# Altium integrated library Maxim Memory.IntLib: 366 symbols (part 3 of 7)
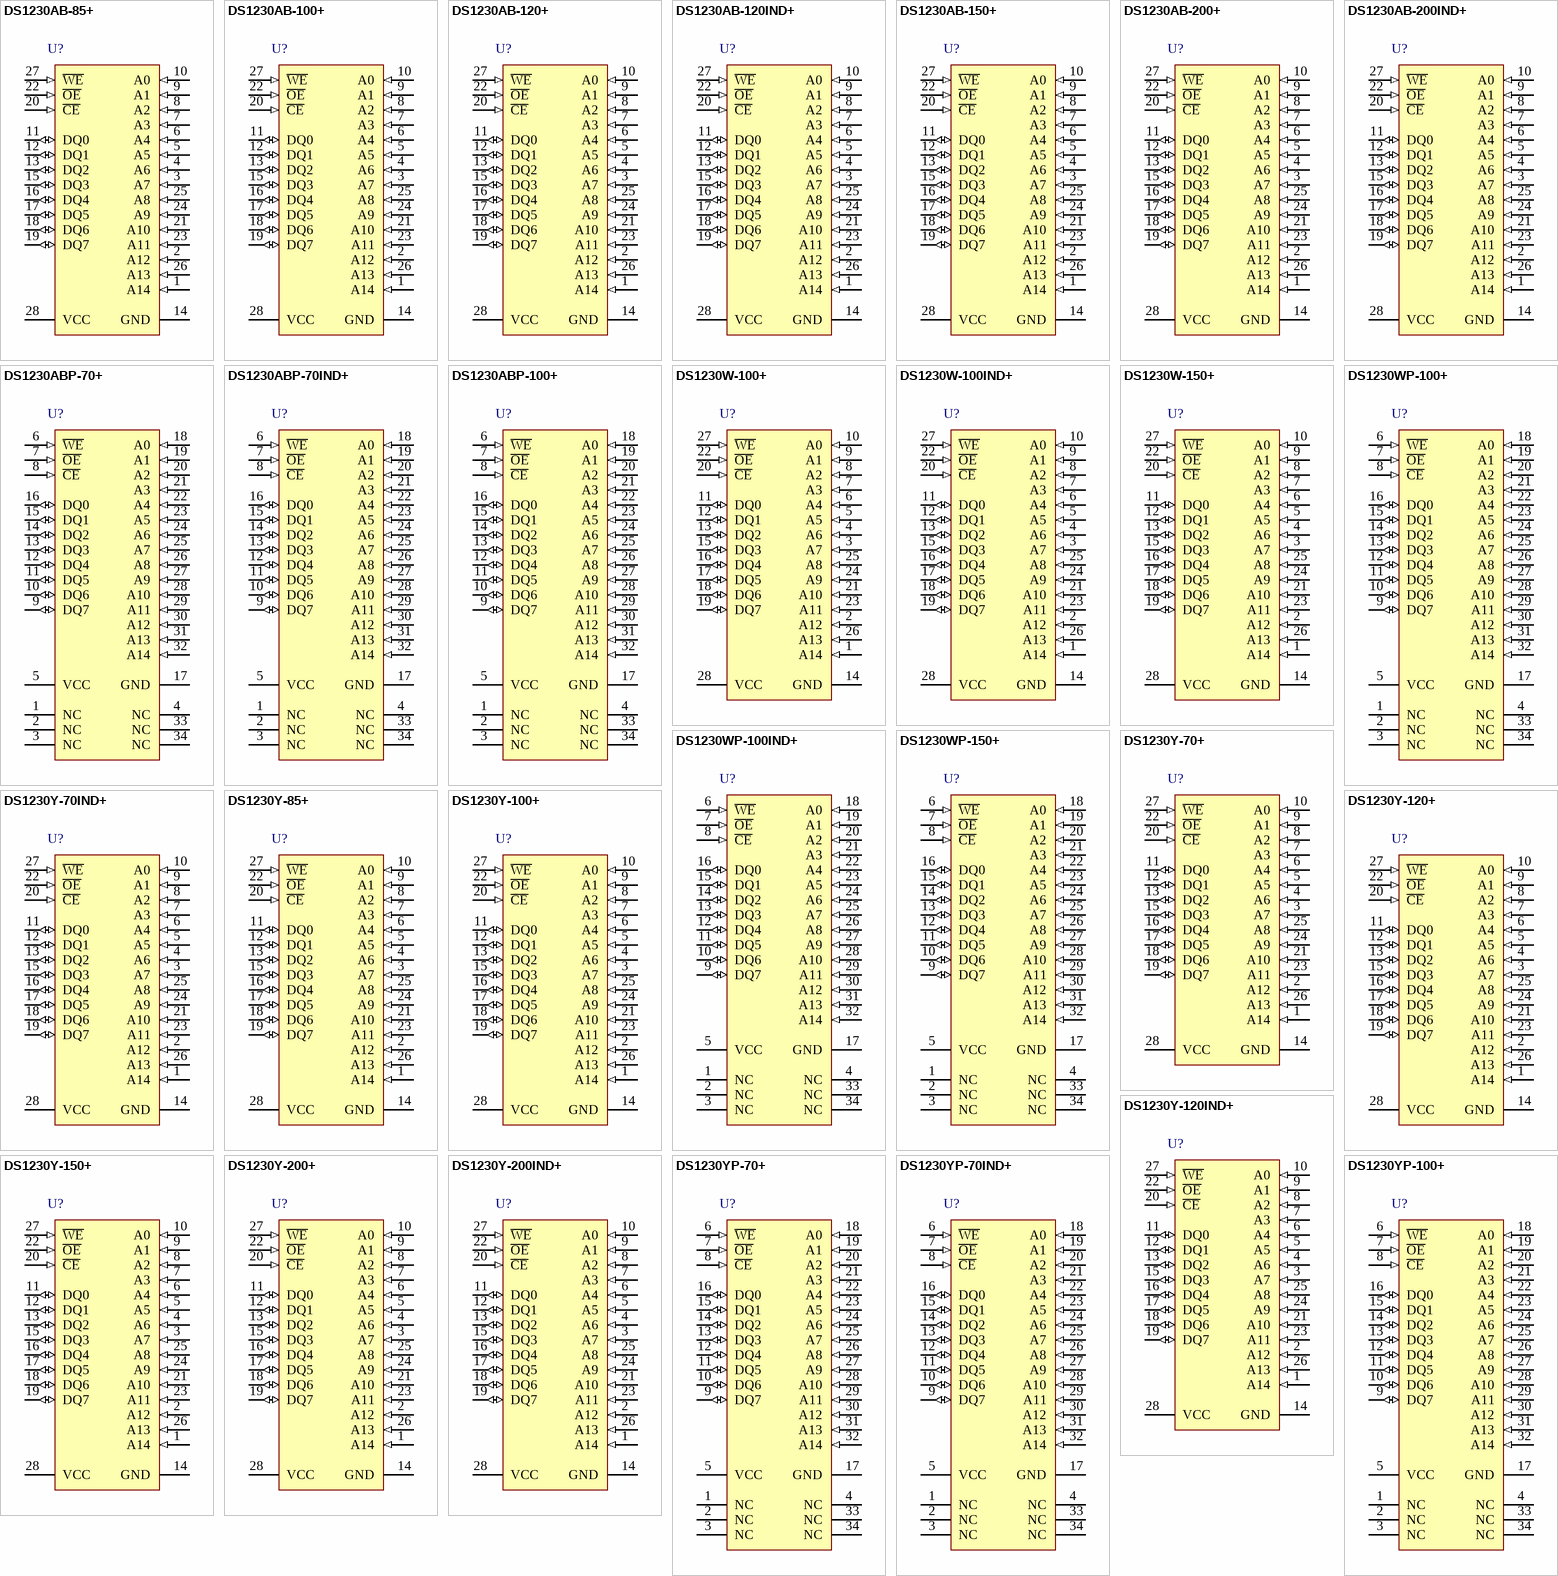
[diagram p15: symbols DS1230AB-85+ to DS1230YP-100+]

## DS1230Y-100+
designator U?
256Kb Nonvolatile SRAM, +/-10% VCC Operating range, 28-pin EDIP, 0° to + 70° C, Pb-Free; DatasheetVersion: 1/11/2010; PackageVersion: revA, Feb-2003; PackageReference: MDT28+3; PackageDescription: 28-Pin Encapsulated Dual-In-Line Module, 2.54 mm Pitch, EDIP, 740-mil extended, Pb-Free; ComponentLink1Description: Manufacturer URL; ComponentLink1URL: www.maxim-ic.com; ComponentLink2Description: Datasheet; ComponentLink2URL: http://datasheets.maxim-ic.com/en/ds/DS1230AB-DS1230Y.pdf
footprint MDT28+3 (DIP; 28 Rectangular Pins, Body 38.2x18.5mm, Row Space 15.24mm, Pitch 2.54mm)
pins: 1 A14 (in), 2 A12 (in), 3 A7 (in), 4 A6 (in), 5 A5 (in), 6 A4 (in), 7 A3 (in), 8 A2 (in), 9 A1 (in), 10 A0 (in), 11 DQ0 (io), 12 DQ1 (io), 13 DQ2 (io), 14 GND (power), 15 DQ3 (io), 16 DQ4 (io), 17 DQ5 (io), 18 DQ6 (io), 19 DQ7 (io), 20 ~{CE} (in), 21 A10 (in), 22 ~{OE} (in), 23 A11 (in), 24 A9 (in), 25 A8 (in), 26 A13 (in), 27 ~{WE} (in), 28 VCC (power)

## DS1230Y-120+
designator U?
256Kb Nonvolatile SRAM, +/-10% VCC Operating range, 28-pin EDIP, 0° to + 70° C, Pb-Free; DatasheetVersion: 1/11/2010; PackageVersion: revA, Feb-2003; PackageReference: MDT28+3; PackageDescription: 28-Pin Encapsulated Dual-In-Line Module, 2.54 mm Pitch, EDIP, 740-mil extended, Pb-Free; ComponentLink1Description: Manufacturer URL; ComponentLink1URL: www.maxim-ic.com; ComponentLink2Description: Datasheet; ComponentLink2URL: http://datasheets.maxim-ic.com/en/ds/DS1230AB-DS1230Y.pdf
footprint MDT28+3 (DIP; 28 Rectangular Pins, Body 38.2x18.5mm, Row Space 15.24mm, Pitch 2.54mm)
pins: 1 A14 (in), 2 A12 (in), 3 A7 (in), 4 A6 (in), 5 A5 (in), 6 A4 (in), 7 A3 (in), 8 A2 (in), 9 A1 (in), 10 A0 (in), 11 DQ0 (io), 12 DQ1 (io), 13 DQ2 (io), 14 GND (power), 15 DQ3 (io), 16 DQ4 (io), 17 DQ5 (io), 18 DQ6 (io), 19 DQ7 (io), 20 ~{CE} (in), 21 A10 (in), 22 ~{OE} (in), 23 A11 (in), 24 A9 (in), 25 A8 (in), 26 A13 (in), 27 ~{WE} (in), 28 VCC (power)

## DS1230Y-120IND+
designator U?
256Kb Nonvolatile SRAM, +/-10% VCC Operating range, 28-pin EDIP, -40° to + 85° C, Pb-Free; DatasheetVersion: 1/11/2010; PackageVersion: revA, Feb-2003; PackageReference: MDT28+3; PackageDescription: 28-Pin Encapsulated Dual-In-Line Module, 2.54 mm Pitch, EDIP, 740-mil extended, Pb-Free; ComponentLink1Description: Manufacturer URL; ComponentLink1URL: www.maxim-ic.com; ComponentLink2Description: Datasheet; ComponentLink2URL: http://datasheets.maxim-ic.com/en/ds/DS1230AB-DS1230Y.pdf
footprint MDT28+3 (DIP; 28 Rectangular Pins, Body 38.2x18.5mm, Row Space 15.24mm, Pitch 2.54mm)
pins: 1 A14 (in), 2 A12 (in), 3 A7 (in), 4 A6 (in), 5 A5 (in), 6 A4 (in), 7 A3 (in), 8 A2 (in), 9 A1 (in), 10 A0 (in), 11 DQ0 (io), 12 DQ1 (io), 13 DQ2 (io), 14 GND (power), 15 DQ3 (io), 16 DQ4 (io), 17 DQ5 (io), 18 DQ6 (io), 19 DQ7 (io), 20 ~{CE} (in), 21 A10 (in), 22 ~{OE} (in), 23 A11 (in), 24 A9 (in), 25 A8 (in), 26 A13 (in), 27 ~{WE} (in), 28 VCC (power)

## DS1230Y-150+
designator U?
256Kb Nonvolatile SRAM, +/-10% VCC Operating range, 28-pin EDIP, 0° to + 70° C, Pb-Free; DatasheetVersion: 1/11/2010; PackageVersion: revA, Feb-2003; PackageReference: MDT28+3; PackageDescription: 28-Pin Encapsulated Dual-In-Line Module, 2.54 mm Pitch, EDIP, 740-mil extended, Pb-Free; ComponentLink1Description: Manufacturer URL; ComponentLink1URL: www.maxim-ic.com; ComponentLink2Description: Datasheet; ComponentLink2URL: http://datasheets.maxim-ic.com/en/ds/DS1230AB-DS1230Y.pdf
footprint MDT28+3 (DIP; 28 Rectangular Pins, Body 38.2x18.5mm, Row Space 15.24mm, Pitch 2.54mm)
pins: 1 A14 (in), 2 A12 (in), 3 A7 (in), 4 A6 (in), 5 A5 (in), 6 A4 (in), 7 A3 (in), 8 A2 (in), 9 A1 (in), 10 A0 (in), 11 DQ0 (io), 12 DQ1 (io), 13 DQ2 (io), 14 GND (power), 15 DQ3 (io), 16 DQ4 (io), 17 DQ5 (io), 18 DQ6 (io), 19 DQ7 (io), 20 ~{CE} (in), 21 A10 (in), 22 ~{OE} (in), 23 A11 (in), 24 A9 (in), 25 A8 (in), 26 A13 (in), 27 ~{WE} (in), 28 VCC (power)

## DS1230Y-200+
designator U?
256Kb Nonvolatile SRAM, +/-10% VCC Operating range, 28-pin EDIP, 0° to + 70° C, Pb-Free; DatasheetVersion: 1/11/2010; PackageVersion: revA, Feb-2003; PackageReference: MDT28+3; PackageDescription: 28-Pin Encapsulated Dual-In-Line Module, 2.54 mm Pitch, EDIP, 740-mil extended, Pb-Free; ComponentLink1Description: Manufacturer URL; ComponentLink1URL: www.maxim-ic.com; ComponentLink2Description: Datasheet; ComponentLink2URL: http://datasheets.maxim-ic.com/en/ds/DS1230AB-DS1230Y.pdf
footprint MDT28+3 (DIP; 28 Rectangular Pins, Body 38.2x18.5mm, Row Space 15.24mm, Pitch 2.54mm)
pins: 1 A14 (in), 2 A12 (in), 3 A7 (in), 4 A6 (in), 5 A5 (in), 6 A4 (in), 7 A3 (in), 8 A2 (in), 9 A1 (in), 10 A0 (in), 11 DQ0 (io), 12 DQ1 (io), 13 DQ2 (io), 14 GND (power), 15 DQ3 (io), 16 DQ4 (io), 17 DQ5 (io), 18 DQ6 (io), 19 DQ7 (io), 20 ~{CE} (in), 21 A10 (in), 22 ~{OE} (in), 23 A11 (in), 24 A9 (in), 25 A8 (in), 26 A13 (in), 27 ~{WE} (in), 28 VCC (power)

## DS1230Y-200IND+
designator U?
256Kb Nonvolatile SRAM, +/-10% VCC Operating range, 28-pin EDIP, -40° to + 85° C, Pb-Free; DatasheetVersion: 1/11/2010; PackageVersion: revA, Feb-2003; PackageReference: MDT28+3; PackageDescription: 28-Pin Encapsulated Dual-In-Line Module, 2.54 mm Pitch, EDIP, 740-mil extended, Pb-Free; ComponentLink1Description: Manufacturer URL; ComponentLink1URL: www.maxim-ic.com; ComponentLink2Description: Datasheet; ComponentLink2URL: http://datasheets.maxim-ic.com/en/ds/DS1230AB-DS1230Y.pdf
footprint MDT28+3 (DIP; 28 Rectangular Pins, Body 38.2x18.5mm, Row Space 15.24mm, Pitch 2.54mm)
pins: 1 A14 (in), 2 A12 (in), 3 A7 (in), 4 A6 (in), 5 A5 (in), 6 A4 (in), 7 A3 (in), 8 A2 (in), 9 A1 (in), 10 A0 (in), 11 DQ0 (io), 12 DQ1 (io), 13 DQ2 (io), 14 GND (power), 15 DQ3 (io), 16 DQ4 (io), 17 DQ5 (io), 18 DQ6 (io), 19 DQ7 (io), 20 ~{CE} (in), 21 A10 (in), 22 ~{OE} (in), 23 A11 (in), 24 A9 (in), 25 A8 (in), 26 A13 (in), 27 ~{WE} (in), 28 VCC (power)

## DS1230YP-70+
designator U?
256Kb Nonvolatile SRAM, +/-10% VCC Operating range, 34-pin PCAP, 0° to + 70° C, Pb-Free; DatasheetVersion: 1/11/2010; PackageVersion: revA, 2004; PackageReference: PC2+4; PackageDescription: 34-Pin PowerCap 0.990 Module with Cap, Pb-Free; ComponentLink1Description: Manufacturer URL; ComponentLink1URL: www.maxim-ic.com; ComponentLink2Description: Datasheet; ComponentLink2URL: http://datasheets.maxim-ic.com/en/ds/DS1230AB-DS1230Y.pdf
footprint PC2+4 (PowerCap Module with Cap, 34-Leads, Body 24.7 x.25.3mm, Pitch 1.27mm)
pins: 1 NC, 2 NC, 3 NC, 4 NC, 5 VCC (power), 6 ~{WE} (in), 7 ~{OE} (in), 8 ~{CE} (in), 9 DQ7 (io), 10 DQ6 (io), 11 DQ5 (io), 12 DQ4 (io), 13 DQ3 (io), 14 DQ2 (io), 15 DQ1 (io), 16 DQ0 (io), 17 GND (power), 18 A0 (in), 19 A1 (in), 20 A2 (in), 21 A3 (in), 22 A4 (in), 23 A5 (in), 24 A6 (in), 25 A7 (in), 26 A8 (in), 27 A9 (in), 28 A10 (in), 29 A11 (in), 30 A12 (in), 31 A13 (in), 32 A14 (in), 33 NC, 34 NC

## DS1230YP-70IND+
designator U?
256Kb Nonvolatile SRAM, +/-10% VCC Operating range, 34-pin PCAP, -40° to + 85° C, Pb-Free; DatasheetVersion: 1/11/2010; PackageVersion: revA, 2004; PackageReference: PC2+4; PackageDescription: 34-Pin PowerCap 0.990 Module with Cap, Pb-Free; ComponentLink1Description: Manufacturer URL; ComponentLink1URL: www.maxim-ic.com; ComponentLink2Description: Datasheet; ComponentLink2URL: http://datasheets.maxim-ic.com/en/ds/DS1230AB-DS1230Y.pdf
footprint PC2+4 (PowerCap Module with Cap, 34-Leads, Body 24.7 x.25.3mm, Pitch 1.27mm)
pins: 1 NC, 2 NC, 3 NC, 4 NC, 5 VCC (power), 6 ~{WE} (in), 7 ~{OE} (in), 8 ~{CE} (in), 9 DQ7 (io), 10 DQ6 (io), 11 DQ5 (io), 12 DQ4 (io), 13 DQ3 (io), 14 DQ2 (io), 15 DQ1 (io), 16 DQ0 (io), 17 GND (power), 18 A0 (in), 19 A1 (in), 20 A2 (in), 21 A3 (in), 22 A4 (in), 23 A5 (in), 24 A6 (in), 25 A7 (in), 26 A8 (in), 27 A9 (in), 28 A10 (in), 29 A11 (in), 30 A12 (in), 31 A13 (in), 32 A14 (in), 33 NC, 34 NC

## DS1230YP-100+
designator U?
256Kb Nonvolatile SRAM, +/-10% VCC Operating range, 34-pin PCAP, 0° to + 70° C, Pb-Free; DatasheetVersion: 1/11/2010; PackageVersion: revA, 2004; PackageReference: PC2+4; PackageDescription: 34-Pin PowerCap 0.990 Module with Cap, Pb-Free; ComponentLink1Description: Manufacturer URL; ComponentLink1URL: www.maxim-ic.com; ComponentLink2Description: Datasheet; ComponentLink2URL: http://datasheets.maxim-ic.com/en/ds/DS1230AB-DS1230Y.pdf
footprint PC2+4 (PowerCap Module with Cap, 34-Leads, Body 24.7 x.25.3mm, Pitch 1.27mm)
pins: 1 NC, 2 NC, 3 NC, 4 NC, 5 VCC (power), 6 ~{WE} (in), 7 ~{OE} (in), 8 ~{CE} (in), 9 DQ7 (io), 10 DQ6 (io), 11 DQ5 (io), 12 DQ4 (io), 13 DQ3 (io), 14 DQ2 (io), 15 DQ1 (io), 16 DQ0 (io), 17 GND (power), 18 A0 (in), 19 A1 (in), 20 A2 (in), 21 A3 (in), 22 A4 (in), 23 A5 (in), 24 A6 (in), 25 A7 (in), 26 A8 (in), 27 A9 (in), 28 A10 (in), 29 A11 (in), 30 A12 (in), 31 A13 (in), 32 A14 (in), 33 NC, 34 NC

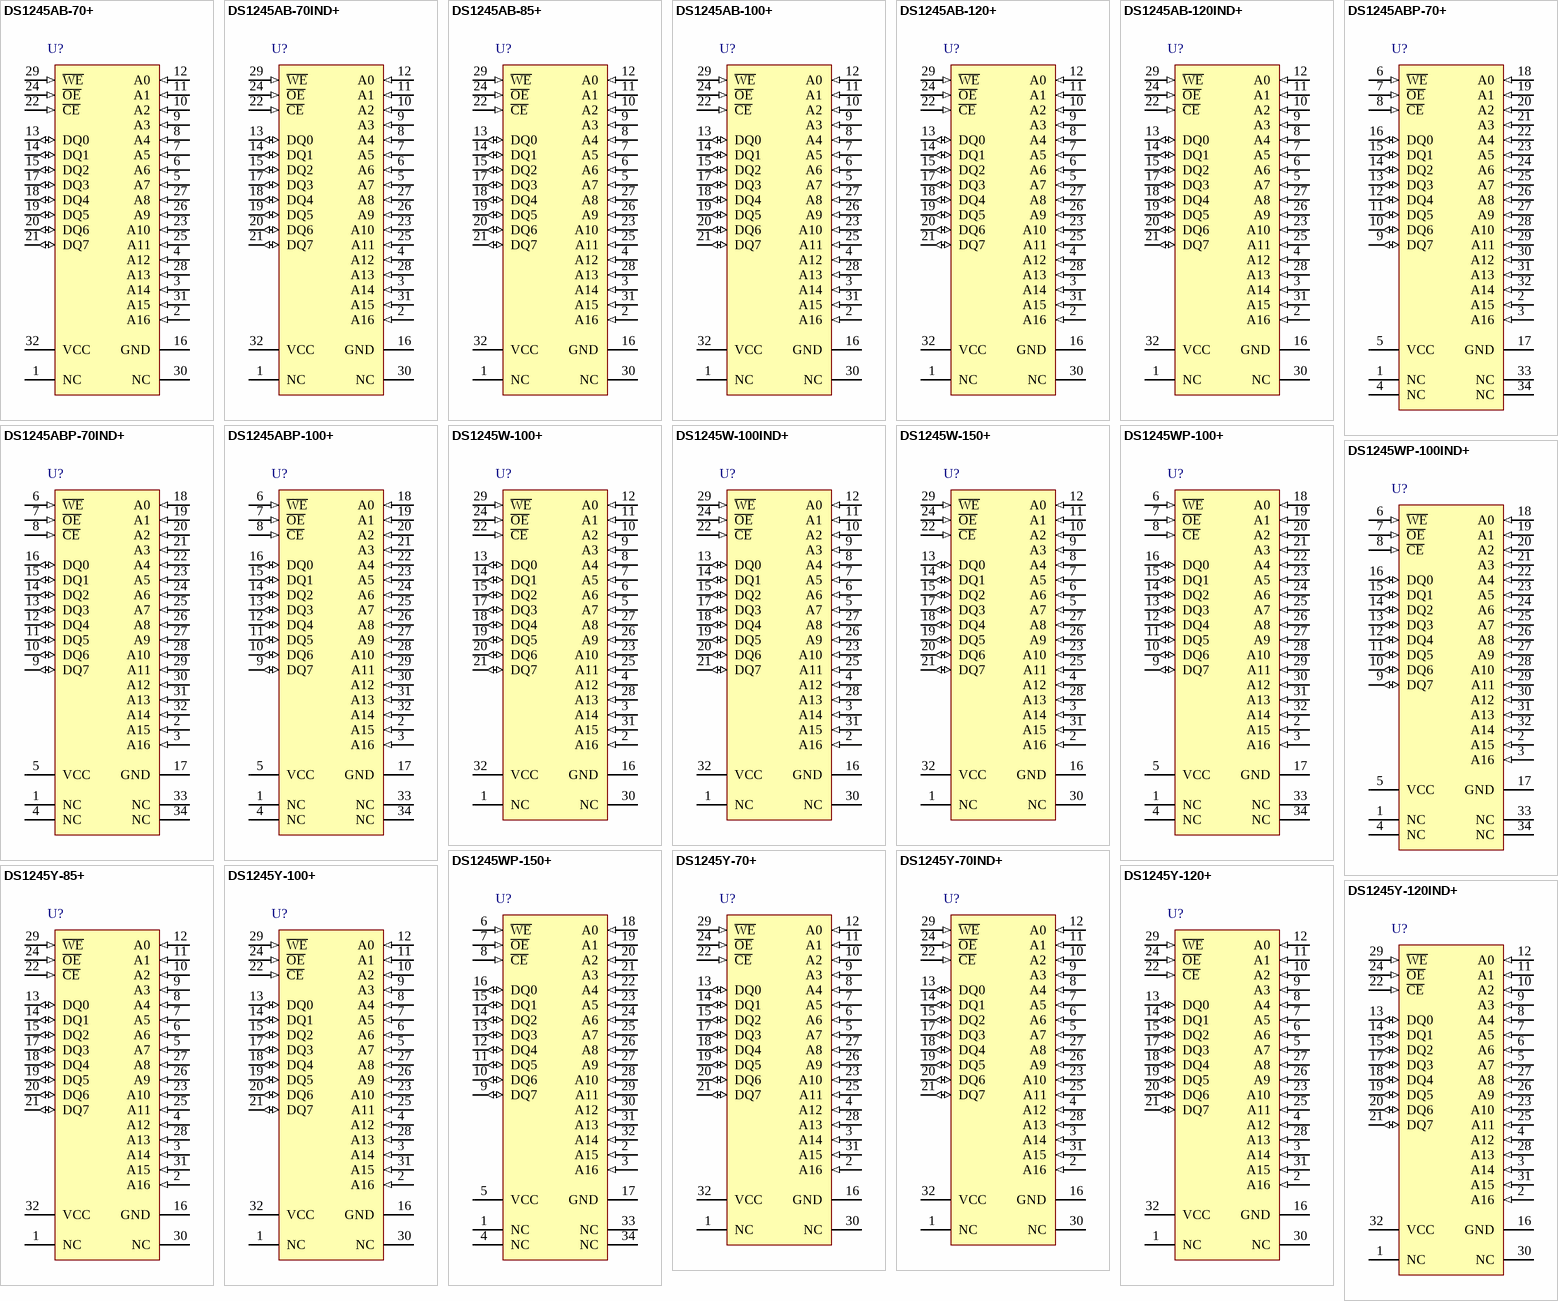
[diagram p4: symbols DS1245AB-70+ to DS1245Y-120IND+]

## DS1245AB-70+
designator U?
1Mb Nonvolatile SRAM, +/-5% VCC Operating range, 32-pin EDIP, 0° to + 70° C, Pb-Free; DatasheetVersion: 1/11/2010; PackageVersion: revA, Feb-2003; PackageReference: MDT32+6; PackageDescription: 32-Pin Encapsulated Dual-In-Line Module, 2.54 mm Pitch, EDIP, Pb-Free; ComponentLink1Description: Manufacturer URL; ComponentLink1URL: www.maxim-ic.com; ComponentLink2Description: Datasheet; ComponentLink2URL: http://datasheets.maxim-ic.com/en/ds/DS1245AB-DS1245Y.pdf
footprint MDT32+6 (DIP; 32 Rectangular Pins, Body 43.1x18.5mm, Row Space 15.24mm, Pitch 2.54mm)
pins: 1 NC, 2 A16 (in), 3 A14 (in), 4 A12 (in), 5 A7 (in), 6 A6 (in), 7 A5 (in), 8 A4 (in), 9 A3 (in), 10 A2 (in), 11 A1 (in), 12 A0 (in), 13 DQ0 (io), 14 DQ1 (io), 15 DQ2 (io), 16 GND (power), 17 DQ3 (io), 18 DQ4 (io), 19 DQ5 (io), 20 DQ6 (io), 21 DQ7 (io), 22 ~{CE} (in), 23 A10 (in), 24 ~{OE} (in), 25 A11 (in), 26 A9 (in), 27 A8 (in), 28 A13 (in), 29 ~{WE} (in), 30 NC, 31 A15 (in), 32 VCC (power)

## DS1245AB-70IND+
designator U?
1Mb Nonvolatile SRAM, +/-5% VCC Operating range, 32-pin EDIP, -40° to + 85° C, Pb-Free; DatasheetVersion: 1/11/2010; PackageVersion: revA, Feb-2003; PackageReference: MDT32+6; PackageDescription: 32-Pin Encapsulated Dual-In-Line Module, 2.54 mm Pitch, EDIP, Pb-Free; ComponentLink1Description: Manufacturer URL; ComponentLink1URL: www.maxim-ic.com; ComponentLink2Description: Datasheet; ComponentLink2URL: http://datasheets.maxim-ic.com/en/ds/DS1245AB-DS1245Y.pdf
footprint MDT32+6 (DIP; 32 Rectangular Pins, Body 43.1x18.5mm, Row Space 15.24mm, Pitch 2.54mm)
pins: 1 NC, 2 A16 (in), 3 A14 (in), 4 A12 (in), 5 A7 (in), 6 A6 (in), 7 A5 (in), 8 A4 (in), 9 A3 (in), 10 A2 (in), 11 A1 (in), 12 A0 (in), 13 DQ0 (io), 14 DQ1 (io), 15 DQ2 (io), 16 GND (power), 17 DQ3 (io), 18 DQ4 (io), 19 DQ5 (io), 20 DQ6 (io), 21 DQ7 (io), 22 ~{CE} (in), 23 A10 (in), 24 ~{OE} (in), 25 A11 (in), 26 A9 (in), 27 A8 (in), 28 A13 (in), 29 ~{WE} (in), 30 NC, 31 A15 (in), 32 VCC (power)

## DS1245AB-85+
designator U?
1Mb Nonvolatile SRAM, +/-5% VCC Operating range, 32-pin EDIP, 0° to + 70° C, Pb-Free; DatasheetVersion: 1/11/2010; PackageVersion: revA, Feb-2003; PackageReference: MDT32+6; PackageDescription: 32-Pin Encapsulated Dual-In-Line Module, 2.54 mm Pitch, EDIP, Pb-Free; ComponentLink1Description: Manufacturer URL; ComponentLink1URL: www.maxim-ic.com; ComponentLink2Description: Datasheet; ComponentLink2URL: http://datasheets.maxim-ic.com/en/ds/DS1245AB-DS1245Y.pdf
footprint MDT32+6 (DIP; 32 Rectangular Pins, Body 43.1x18.5mm, Row Space 15.24mm, Pitch 2.54mm)
pins: 1 NC, 2 A16 (in), 3 A14 (in), 4 A12 (in), 5 A7 (in), 6 A6 (in), 7 A5 (in), 8 A4 (in), 9 A3 (in), 10 A2 (in), 11 A1 (in), 12 A0 (in), 13 DQ0 (io), 14 DQ1 (io), 15 DQ2 (io), 16 GND (power), 17 DQ3 (io), 18 DQ4 (io), 19 DQ5 (io), 20 DQ6 (io), 21 DQ7 (io), 22 ~{CE} (in), 23 A10 (in), 24 ~{OE} (in), 25 A11 (in), 26 A9 (in), 27 A8 (in), 28 A13 (in), 29 ~{WE} (in), 30 NC, 31 A15 (in), 32 VCC (power)

## DS1245AB-100+
designator U?
1Mb Nonvolatile SRAM, +/-5% VCC Operating range, 32-pin EDIP, 0° to + 70° C, Pb-Free; DatasheetVersion: 1/11/2010; PackageVersion: revA, Feb-2003; PackageReference: MDT32+6; PackageDescription: 32-Pin Encapsulated Dual-In-Line Module, 2.54 mm Pitch, EDIP, Pb-Free; ComponentLink1Description: Manufacturer URL; ComponentLink1URL: www.maxim-ic.com; ComponentLink2Description: Datasheet; ComponentLink2URL: http://datasheets.maxim-ic.com/en/ds/DS1245AB-DS1245Y.pdf
footprint MDT32+6 (DIP; 32 Rectangular Pins, Body 43.1x18.5mm, Row Space 15.24mm, Pitch 2.54mm)
pins: 1 NC, 2 A16 (in), 3 A14 (in), 4 A12 (in), 5 A7 (in), 6 A6 (in), 7 A5 (in), 8 A4 (in), 9 A3 (in), 10 A2 (in), 11 A1 (in), 12 A0 (in), 13 DQ0 (io), 14 DQ1 (io), 15 DQ2 (io), 16 GND (power), 17 DQ3 (io), 18 DQ4 (io), 19 DQ5 (io), 20 DQ6 (io), 21 DQ7 (io), 22 ~{CE} (in), 23 A10 (in), 24 ~{OE} (in), 25 A11 (in), 26 A9 (in), 27 A8 (in), 28 A13 (in), 29 ~{WE} (in), 30 NC, 31 A15 (in), 32 VCC (power)

## DS1245AB-120+
designator U?
1Mb Nonvolatile SRAM, +/-5% VCC Operating range, 32-pin EDIP, 0° to + 70° C, Pb-Free; DatasheetVersion: 1/11/2010; PackageVersion: revA, Feb-2003; PackageReference: MDT32+6; PackageDescription: 32-Pin Encapsulated Dual-In-Line Module, 2.54 mm Pitch, EDIP, Pb-Free; ComponentLink1Description: Manufacturer URL; ComponentLink1URL: www.maxim-ic.com; ComponentLink2Description: Datasheet; ComponentLink2URL: http://datasheets.maxim-ic.com/en/ds/DS1245AB-DS1245Y.pdf
footprint MDT32+6 (DIP; 32 Rectangular Pins, Body 43.1x18.5mm, Row Space 15.24mm, Pitch 2.54mm)
pins: 1 NC, 2 A16 (in), 3 A14 (in), 4 A12 (in), 5 A7 (in), 6 A6 (in), 7 A5 (in), 8 A4 (in), 9 A3 (in), 10 A2 (in), 11 A1 (in), 12 A0 (in), 13 DQ0 (io), 14 DQ1 (io), 15 DQ2 (io), 16 GND (power), 17 DQ3 (io), 18 DQ4 (io), 19 DQ5 (io), 20 DQ6 (io), 21 DQ7 (io), 22 ~{CE} (in), 23 A10 (in), 24 ~{OE} (in), 25 A11 (in), 26 A9 (in), 27 A8 (in), 28 A13 (in), 29 ~{WE} (in), 30 NC, 31 A15 (in), 32 VCC (power)

## DS1245AB-120IND+
designator U?
1Mb Nonvolatile SRAM, +/-5% VCC Operating range, 32-pin EDIP, -40° to + 85° C, Pb-Free; DatasheetVersion: 1/11/2010; PackageVersion: revA, Feb-2003; PackageReference: MDT32+6; PackageDescription: 32-Pin Encapsulated Dual-In-Line Module, 2.54 mm Pitch, EDIP, Pb-Free; ComponentLink1Description: Manufacturer URL; ComponentLink1URL: www.maxim-ic.com; ComponentLink2Description: Datasheet; ComponentLink2URL: http://datasheets.maxim-ic.com/en/ds/DS1245AB-DS1245Y.pdf
footprint MDT32+6 (DIP; 32 Rectangular Pins, Body 43.1x18.5mm, Row Space 15.24mm, Pitch 2.54mm)
pins: 1 NC, 2 A16 (in), 3 A14 (in), 4 A12 (in), 5 A7 (in), 6 A6 (in), 7 A5 (in), 8 A4 (in), 9 A3 (in), 10 A2 (in), 11 A1 (in), 12 A0 (in), 13 DQ0 (io), 14 DQ1 (io), 15 DQ2 (io), 16 GND (power), 17 DQ3 (io), 18 DQ4 (io), 19 DQ5 (io), 20 DQ6 (io), 21 DQ7 (io), 22 ~{CE} (in), 23 A10 (in), 24 ~{OE} (in), 25 A11 (in), 26 A9 (in), 27 A8 (in), 28 A13 (in), 29 ~{WE} (in), 30 NC, 31 A15 (in), 32 VCC (power)

## DS1245ABP-70+
designator U?
1Mb Nonvolatile SRAM, +/-5% VCC Operating range, 34-pin PCAP, 0° to + 70° C, Pb-Free; DatasheetVersion: 1/11/2010; PackageVersion: revA, 2004; PackageReference: PC2+3; PackageDescription: 34-Pin PowerCap 0.990 Module with Cap, Pb-Free; ComponentLink1Description: Manufacturer URL; ComponentLink1URL: www.maxim-ic.com; ComponentLink2Description: Datasheet; ComponentLink2URL: http://datasheets.maxim-ic.com/en/ds/DS1245AB-DS1245Y.pdf
footprint PC2+3 (PowerCap Module with Cap, 34-Leads, Body 24.7 x.25.3mm, Pitch 1.27mm)
pins: 1 NC, 2 A15 (in), 3 A16 (in), 4 NC, 5 VCC (power), 6 ~{WE} (in), 7 ~{OE} (in), 8 ~{CE} (in), 9 DQ7 (io), 10 DQ6 (io), 11 DQ5 (io), 12 DQ4 (io), 13 DQ3 (io), 14 DQ2 (io), 15 DQ1 (io), 16 DQ0 (io), 17 GND (power), 18 A0 (in), 19 A1 (in), 20 A2 (in), 21 A3 (in), 22 A4 (in), 23 A5 (in), 24 A6 (in), 25 A7 (in), 26 A8 (in), 27 A9 (in), 28 A10 (in), 29 A11 (in), 30 A12 (in), 31 A13 (in), 32 A14 (in), 33 NC, 34 NC

## DS1245ABP-70IND+
designator U?
1Mb Nonvolatile SRAM, +/-5% VCC Operating range, 34-pin PCAP, -40° to + 85° C, Pb-Free; DatasheetVersion: 1/11/2010; PackageVersion: revA, 2004; PackageReference: PC2+3; PackageDescription: 34-Pin PowerCap 0.990 Module with Cap, Pb-Free; ComponentLink1Description: Manufacturer URL; ComponentLink1URL: www.maxim-ic.com; ComponentLink2Description: Datasheet; ComponentLink2URL: http://datasheets.maxim-ic.com/en/ds/DS1245AB-DS1245Y.pdf
footprint PC2+3 (PowerCap Module with Cap, 34-Leads, Body 24.7 x.25.3mm, Pitch 1.27mm)
pins: 1 NC, 2 A15 (in), 3 A16 (in), 4 NC, 5 VCC (power), 6 ~{WE} (in), 7 ~{OE} (in), 8 ~{CE} (in), 9 DQ7 (io), 10 DQ6 (io), 11 DQ5 (io), 12 DQ4 (io), 13 DQ3 (io), 14 DQ2 (io), 15 DQ1 (io), 16 DQ0 (io), 17 GND (power), 18 A0 (in), 19 A1 (in), 20 A2 (in), 21 A3 (in), 22 A4 (in), 23 A5 (in), 24 A6 (in), 25 A7 (in), 26 A8 (in), 27 A9 (in), 28 A10 (in), 29 A11 (in), 30 A12 (in), 31 A13 (in), 32 A14 (in), 33 NC, 34 NC

## DS1245ABP-100+
designator U?
1Mb Nonvolatile SRAM, +/-5% VCC Operating range, 34-pin PCAP, 0° to + 70° C, Pb-Free; DatasheetVersion: 1/11/2010; PackageVersion: revA, 2004; PackageReference: PC2+3; PackageDescription: 34-Pin PowerCap 0.990 Module with Cap, Pb-Free; ComponentLink1Description: Manufacturer URL; ComponentLink1URL: www.maxim-ic.com; ComponentLink2Description: Datasheet; ComponentLink2URL: http://datasheets.maxim-ic.com/en/ds/DS1245AB-DS1245Y.pdf
footprint PC2+3 (PowerCap Module with Cap, 34-Leads, Body 24.7 x.25.3mm, Pitch 1.27mm)
pins: 1 NC, 2 A15 (in), 3 A16 (in), 4 NC, 5 VCC (power), 6 ~{WE} (in), 7 ~{OE} (in), 8 ~{CE} (in), 9 DQ7 (io), 10 DQ6 (io), 11 DQ5 (io), 12 DQ4 (io), 13 DQ3 (io), 14 DQ2 (io), 15 DQ1 (io), 16 DQ0 (io), 17 GND (power), 18 A0 (in), 19 A1 (in), 20 A2 (in), 21 A3 (in), 22 A4 (in), 23 A5 (in), 24 A6 (in), 25 A7 (in), 26 A8 (in), 27 A9 (in), 28 A10 (in), 29 A11 (in), 30 A12 (in), 31 A13 (in), 32 A14 (in), 33 NC, 34 NC

## DS1245W-100+
designator U?
1Mb 3.3V Nonvolatile SRAM, 32-pin EDIP, 0° to + 70° C, Pb-Free; DatasheetVersion: 1/11/2010; PackageVersion: revA, Feb-2003; PackageReference: MDT32+6; PackageDescription: 32-Pin Encapsulated Dual-In-Line Module, 2.54 mm Pitch, EDIP, Pb-Free; ComponentLink1Description: Manufacturer URL; ComponentLink1URL: www.maxim-ic.com; ComponentLink2Description: Datasheet; ComponentLink2URL: http://datasheets.maxim-ic.com/en/ds/DS1245W.pdf
footprint MDT32+6 (DIP; 32 Rectangular Pins, Body 43.1x18.5mm, Row Space 15.24mm, Pitch 2.54mm)
pins: 1 NC, 2 A16 (in), 3 A14 (in), 4 A12 (in), 5 A7 (in), 6 A6 (in), 7 A5 (in), 8 A4 (in), 9 A3 (in), 10 A2 (in), 11 A1 (in), 12 A0 (in), 13 DQ0 (io), 14 DQ1 (io), 15 DQ2 (io), 16 GND (power), 17 DQ3 (io), 18 DQ4 (io), 19 DQ5 (io), 20 DQ6 (io), 21 DQ7 (io), 22 ~{CE} (in), 23 A10 (in), 24 ~{OE} (in), 25 A11 (in), 26 A9 (in), 27 A8 (in), 28 A13 (in), 29 ~{WE} (in), 30 NC, 31 A15 (in), 32 VCC (power)

## DS1245W-100IND+
designator U?
1Mb 3.3V Nonvolatile SRAM, 32-pin EDIP, -40° to + 85° C, Pb-Free; DatasheetVersion: 1/11/2010; PackageVersion: revA, Feb-2003; PackageReference: MDT32+6; PackageDescription: 32-Pin Encapsulated Dual-In-Line Module, 2.54 mm Pitch, EDIP, Pb-Free; ComponentLink1Description: Manufacturer URL; ComponentLink1URL: www.maxim-ic.com; ComponentLink2Description: Datasheet; ComponentLink2URL: http://datasheets.maxim-ic.com/en/ds/DS1245W.pdf
footprint MDT32+6 (DIP; 32 Rectangular Pins, Body 43.1x18.5mm, Row Space 15.24mm, Pitch 2.54mm)
pins: 1 NC, 2 A16 (in), 3 A14 (in), 4 A12 (in), 5 A7 (in), 6 A6 (in), 7 A5 (in), 8 A4 (in), 9 A3 (in), 10 A2 (in), 11 A1 (in), 12 A0 (in), 13 DQ0 (io), 14 DQ1 (io), 15 DQ2 (io), 16 GND (power), 17 DQ3 (io), 18 DQ4 (io), 19 DQ5 (io), 20 DQ6 (io), 21 DQ7 (io), 22 ~{CE} (in), 23 A10 (in), 24 ~{OE} (in), 25 A11 (in), 26 A9 (in), 27 A8 (in), 28 A13 (in), 29 ~{WE} (in), 30 NC, 31 A15 (in), 32 VCC (power)

## DS1245W-150+
designator U?
1Mb 3.3V Nonvolatile SRAM, 32-pin EDIP, 0° to + 70° C, Pb-Free; DatasheetVersion: 1/11/2010; PackageVersion: revA, Feb-2003; PackageReference: MDT32+6; PackageDescription: 32-Pin Encapsulated Dual-In-Line Module, 2.54 mm Pitch, EDIP, Pb-Free; ComponentLink1Description: Manufacturer URL; ComponentLink1URL: www.maxim-ic.com; ComponentLink2Description: Datasheet; ComponentLink2URL: http://datasheets.maxim-ic.com/en/ds/DS1245W.pdf
footprint MDT32+6 (DIP; 32 Rectangular Pins, Body 43.1x18.5mm, Row Space 15.24mm, Pitch 2.54mm)
pins: 1 NC, 2 A16 (in), 3 A14 (in), 4 A12 (in), 5 A7 (in), 6 A6 (in), 7 A5 (in), 8 A4 (in), 9 A3 (in), 10 A2 (in), 11 A1 (in), 12 A0 (in), 13 DQ0 (io), 14 DQ1 (io), 15 DQ2 (io), 16 GND (power), 17 DQ3 (io), 18 DQ4 (io), 19 DQ5 (io), 20 DQ6 (io), 21 DQ7 (io), 22 ~{CE} (in), 23 A10 (in), 24 ~{OE} (in), 25 A11 (in), 26 A9 (in), 27 A8 (in), 28 A13 (in), 29 ~{WE} (in), 30 NC, 31 A15 (in), 32 VCC (power)

## DS1245WP-100+
designator U?
1Mb 3.3V Nonvolatile SRAM, 34-pin PCAP, 0° to + 70° C, Pb-Free; DatasheetVersion: 1/11/2010; PackageVersion: revA, 2004; PackageReference: PC2+3; PackageDescription: 34-Pin PowerCap 0.990 Module with Cap, Pb-Free; ComponentLink1Description: Manufacturer URL; ComponentLink1URL: www.maxim-ic.com; ComponentLink2Description: Datasheet; ComponentLink2URL: http://datasheets.maxim-ic.com/en/ds/DS1245W.pdf
footprint PC2+3 (PowerCap Module with Cap, 34-Leads, Body 24.7 x.25.3mm, Pitch 1.27mm)
pins: 1 NC, 2 A15 (in), 3 A16 (in), 4 NC, 5 VCC (power), 6 ~{WE} (in), 7 ~{OE} (in), 8 ~{CE} (in), 9 DQ7 (io), 10 DQ6 (io), 11 DQ5 (io), 12 DQ4 (io), 13 DQ3 (io), 14 DQ2 (io), 15 DQ1 (io), 16 DQ0 (io), 17 GND (power), 18 A0 (in), 19 A1 (in), 20 A2 (in), 21 A3 (in), 22 A4 (in), 23 A5 (in), 24 A6 (in), 25 A7 (in), 26 A8 (in), 27 A9 (in), 28 A10 (in), 29 A11 (in), 30 A12 (in), 31 A13 (in), 32 A14 (in), 33 NC, 34 NC

## DS1245WP-100IND+
designator U?
1Mb 3.3V Nonvolatile SRAM, 34-pin PCAP, -40° to + 85° C, Pb-Free; DatasheetVersion: 1/11/2010; PackageVersion: revA, 2004; PackageReference: PC2+3; PackageDescription: 34-Pin PowerCap 0.990 Module with Cap, Pb-Free; ComponentLink1Description: Manufacturer URL; ComponentLink1URL: www.maxim-ic.com; ComponentLink2Description: Datasheet; ComponentLink2URL: http://datasheets.maxim-ic.com/en/ds/DS1245W.pdf
footprint PC2+3 (PowerCap Module with Cap, 34-Leads, Body 24.7 x.25.3mm, Pitch 1.27mm)
pins: 1 NC, 2 A15 (in), 3 A16 (in), 4 NC, 5 VCC (power), 6 ~{WE} (in), 7 ~{OE} (in), 8 ~{CE} (in), 9 DQ7 (io), 10 DQ6 (io), 11 DQ5 (io), 12 DQ4 (io), 13 DQ3 (io), 14 DQ2 (io), 15 DQ1 (io), 16 DQ0 (io), 17 GND (power), 18 A0 (in), 19 A1 (in), 20 A2 (in), 21 A3 (in), 22 A4 (in), 23 A5 (in), 24 A6 (in), 25 A7 (in), 26 A8 (in), 27 A9 (in), 28 A10 (in), 29 A11 (in), 30 A12 (in), 31 A13 (in), 32 A14 (in), 33 NC, 34 NC

## DS1245WP-150+
designator U?
1Mb 3.3V Nonvolatile SRAM, 34-pin PCAP, 0° to + 70° C, Pb-Free; DatasheetVersion: 1/11/2010; PackageVersion: revA, 2004; PackageReference: PC2+3; PackageDescription: 34-Pin PowerCap 0.990 Module with Cap, Pb-Free; ComponentLink1Description: Manufacturer URL; ComponentLink1URL: www.maxim-ic.com; ComponentLink2Description: Datasheet; ComponentLink2URL: http://datasheets.maxim-ic.com/en/ds/DS1245W.pdf
footprint PC2+3 (PowerCap Module with Cap, 34-Leads, Body 24.7 x.25.3mm, Pitch 1.27mm)
pins: 1 NC, 2 A15 (in), 3 A16 (in), 4 NC, 5 VCC (power), 6 ~{WE} (in), 7 ~{OE} (in), 8 ~{CE} (in), 9 DQ7 (io), 10 DQ6 (io), 11 DQ5 (io), 12 DQ4 (io), 13 DQ3 (io), 14 DQ2 (io), 15 DQ1 (io), 16 DQ0 (io), 17 GND (power), 18 A0 (in), 19 A1 (in), 20 A2 (in), 21 A3 (in), 22 A4 (in), 23 A5 (in), 24 A6 (in), 25 A7 (in), 26 A8 (in), 27 A9 (in), 28 A10 (in), 29 A11 (in), 30 A12 (in), 31 A13 (in), 32 A14 (in), 33 NC, 34 NC

## DS1245Y-70+
designator U?
1Mb Nonvolatile SRAM, +/-10% VCC Operating range, 32-pin EDIP, 0° to + 70° C, Pb-Free; DatasheetVersion: 1/11/2010; PackageVersion: revA, Feb-2003; PackageReference: MDT32+6; PackageDescription: 32-Pin Encapsulated Dual-In-Line Module, 2.54 mm Pitch, EDIP, Pb-Free; ComponentLink1Description: Manufacturer URL; ComponentLink1URL: www.maxim-ic.com; ComponentLink2Description: Datasheet; ComponentLink2URL: http://datasheets.maxim-ic.com/en/ds/DS1245AB-DS1245Y.pdf
footprint MDT32+6 (DIP; 32 Rectangular Pins, Body 43.1x18.5mm, Row Space 15.24mm, Pitch 2.54mm)
pins: 1 NC, 2 A16 (in), 3 A14 (in), 4 A12 (in), 5 A7 (in), 6 A6 (in), 7 A5 (in), 8 A4 (in), 9 A3 (in), 10 A2 (in), 11 A1 (in), 12 A0 (in), 13 DQ0 (io), 14 DQ1 (io), 15 DQ2 (io), 16 GND (power), 17 DQ3 (io), 18 DQ4 (io), 19 DQ5 (io), 20 DQ6 (io), 21 DQ7 (io), 22 ~{CE} (in), 23 A10 (in), 24 ~{OE} (in), 25 A11 (in), 26 A9 (in), 27 A8 (in), 28 A13 (in), 29 ~{WE} (in), 30 NC, 31 A15 (in), 32 VCC (power)

## DS1245Y-70IND+
designator U?
1Mb Nonvolatile SRAM, +/-10% VCC Operating range, 32-pin EDIP, -40° to + 85° C, Pb-Free; DatasheetVersion: 1/11/2010; PackageVersion: revA, Feb-2003; PackageReference: MDT32+6; PackageDescription: 32-Pin Encapsulated Dual-In-Line Module, 2.54 mm Pitch, EDIP, Pb-Free; ComponentLink1Description: Manufacturer URL; ComponentLink1URL: www.maxim-ic.com; ComponentLink2Description: Datasheet; ComponentLink2URL: http://datasheets.maxim-ic.com/en/ds/DS1245AB-DS1245Y.pdf
footprint MDT32+6 (DIP; 32 Rectangular Pins, Body 43.1x18.5mm, Row Space 15.24mm, Pitch 2.54mm)
pins: 1 NC, 2 A16 (in), 3 A14 (in), 4 A12 (in), 5 A7 (in), 6 A6 (in), 7 A5 (in), 8 A4 (in), 9 A3 (in), 10 A2 (in), 11 A1 (in), 12 A0 (in), 13 DQ0 (io), 14 DQ1 (io), 15 DQ2 (io), 16 GND (power), 17 DQ3 (io), 18 DQ4 (io), 19 DQ5 (io), 20 DQ6 (io), 21 DQ7 (io), 22 ~{CE} (in), 23 A10 (in), 24 ~{OE} (in), 25 A11 (in), 26 A9 (in), 27 A8 (in), 28 A13 (in), 29 ~{WE} (in), 30 NC, 31 A15 (in), 32 VCC (power)

## DS1245Y-85+
designator U?
1Mb Nonvolatile SRAM, +/-10% VCC Operating range, 32-pin EDIP, 0° to + 70° C, Pb-Free; DatasheetVersion: 1/11/2010; PackageVersion: revA, Feb-2003; PackageReference: MDT32+6; PackageDescription: 32-Pin Encapsulated Dual-In-Line Module, 2.54 mm Pitch, EDIP, Pb-Free; ComponentLink1Description: Manufacturer URL; ComponentLink1URL: www.maxim-ic.com; ComponentLink2Description: Datasheet; ComponentLink2URL: http://datasheets.maxim-ic.com/en/ds/DS1245AB-DS1245Y.pdf
footprint MDT32+6 (DIP; 32 Rectangular Pins, Body 43.1x18.5mm, Row Space 15.24mm, Pitch 2.54mm)
pins: 1 NC, 2 A16 (in), 3 A14 (in), 4 A12 (in), 5 A7 (in), 6 A6 (in), 7 A5 (in), 8 A4 (in), 9 A3 (in), 10 A2 (in), 11 A1 (in), 12 A0 (in), 13 DQ0 (io), 14 DQ1 (io), 15 DQ2 (io), 16 GND (power), 17 DQ3 (io), 18 DQ4 (io), 19 DQ5 (io), 20 DQ6 (io), 21 DQ7 (io), 22 ~{CE} (in), 23 A10 (in), 24 ~{OE} (in), 25 A11 (in), 26 A9 (in), 27 A8 (in), 28 A13 (in), 29 ~{WE} (in), 30 NC, 31 A15 (in), 32 VCC (power)

## DS1245Y-100+
designator U?
1Mb Nonvolatile SRAM, +/-10% VCC Operating range, 32-pin EDIP, 0° to + 70° C, Pb-Free; DatasheetVersion: 1/11/2010; PackageVersion: revA, Feb-2003; PackageReference: MDT32+6; PackageDescription: 32-Pin Encapsulated Dual-In-Line Module, 2.54 mm Pitch, EDIP, Pb-Free; ComponentLink1Description: Manufacturer URL; ComponentLink1URL: www.maxim-ic.com; ComponentLink2Description: Datasheet; ComponentLink2URL: http://datasheets.maxim-ic.com/en/ds/DS1245AB-DS1245Y.pdf
footprint MDT32+6 (DIP; 32 Rectangular Pins, Body 43.1x18.5mm, Row Space 15.24mm, Pitch 2.54mm)
pins: 1 NC, 2 A16 (in), 3 A14 (in), 4 A12 (in), 5 A7 (in), 6 A6 (in), 7 A5 (in), 8 A4 (in), 9 A3 (in), 10 A2 (in), 11 A1 (in), 12 A0 (in), 13 DQ0 (io), 14 DQ1 (io), 15 DQ2 (io), 16 GND (power), 17 DQ3 (io), 18 DQ4 (io), 19 DQ5 (io), 20 DQ6 (io), 21 DQ7 (io), 22 ~{CE} (in), 23 A10 (in), 24 ~{OE} (in), 25 A11 (in), 26 A9 (in), 27 A8 (in), 28 A13 (in), 29 ~{WE} (in), 30 NC, 31 A15 (in), 32 VCC (power)

## DS1245Y-120+
designator U?
1Mb Nonvolatile SRAM, +/-10% VCC Operating range, 32-pin EDIP, 0° to + 70° C, Pb-Free; DatasheetVersion: 1/11/2010; PackageVersion: revA, Feb-2003; PackageReference: MDT32+6; PackageDescription: 32-Pin Encapsulated Dual-In-Line Module, 2.54 mm Pitch, EDIP, Pb-Free; ComponentLink1Description: Manufacturer URL; ComponentLink1URL: www.maxim-ic.com; ComponentLink2Description: Datasheet; ComponentLink2URL: http://datasheets.maxim-ic.com/en/ds/DS1245AB-DS1245Y.pdf
footprint MDT32+6 (DIP; 32 Rectangular Pins, Body 43.1x18.5mm, Row Space 15.24mm, Pitch 2.54mm)
pins: 1 NC, 2 A16 (in), 3 A14 (in), 4 A12 (in), 5 A7 (in), 6 A6 (in), 7 A5 (in), 8 A4 (in), 9 A3 (in), 10 A2 (in), 11 A1 (in), 12 A0 (in), 13 DQ0 (io), 14 DQ1 (io), 15 DQ2 (io), 16 GND (power), 17 DQ3 (io), 18 DQ4 (io), 19 DQ5 (io), 20 DQ6 (io), 21 DQ7 (io), 22 ~{CE} (in), 23 A10 (in), 24 ~{OE} (in), 25 A11 (in), 26 A9 (in), 27 A8 (in), 28 A13 (in), 29 ~{WE} (in), 30 NC, 31 A15 (in), 32 VCC (power)

## DS1245Y-120IND+
designator U?
1Mb Nonvolatile SRAM, +/-10% VCC Operating range, 32-pin EDIP, -40° to + 85° C, Pb-Free; DatasheetVersion: 1/11/2010; PackageVersion: revA, Feb-2003; PackageReference: MDT32+6; PackageDescription: 32-Pin Encapsulated Dual-In-Line Module, 2.54 mm Pitch, EDIP, Pb-Free; ComponentLink1Description: Manufacturer URL; ComponentLink1URL: www.maxim-ic.com; ComponentLink2Description: Datasheet; ComponentLink2URL: http://datasheets.maxim-ic.com/en/ds/DS1245AB-DS1245Y.pdf
footprint MDT32+6 (DIP; 32 Rectangular Pins, Body 43.1x18.5mm, Row Space 15.24mm, Pitch 2.54mm)
pins: 1 NC, 2 A16 (in), 3 A14 (in), 4 A12 (in), 5 A7 (in), 6 A6 (in), 7 A5 (in), 8 A4 (in), 9 A3 (in), 10 A2 (in), 11 A1 (in), 12 A0 (in), 13 DQ0 (io), 14 DQ1 (io), 15 DQ2 (io), 16 GND (power), 17 DQ3 (io), 18 DQ4 (io), 19 DQ5 (io), 20 DQ6 (io), 21 DQ7 (io), 22 ~{CE} (in), 23 A10 (in), 24 ~{OE} (in), 25 A11 (in), 26 A9 (in), 27 A8 (in), 28 A13 (in), 29 ~{WE} (in), 30 NC, 31 A15 (in), 32 VCC (power)

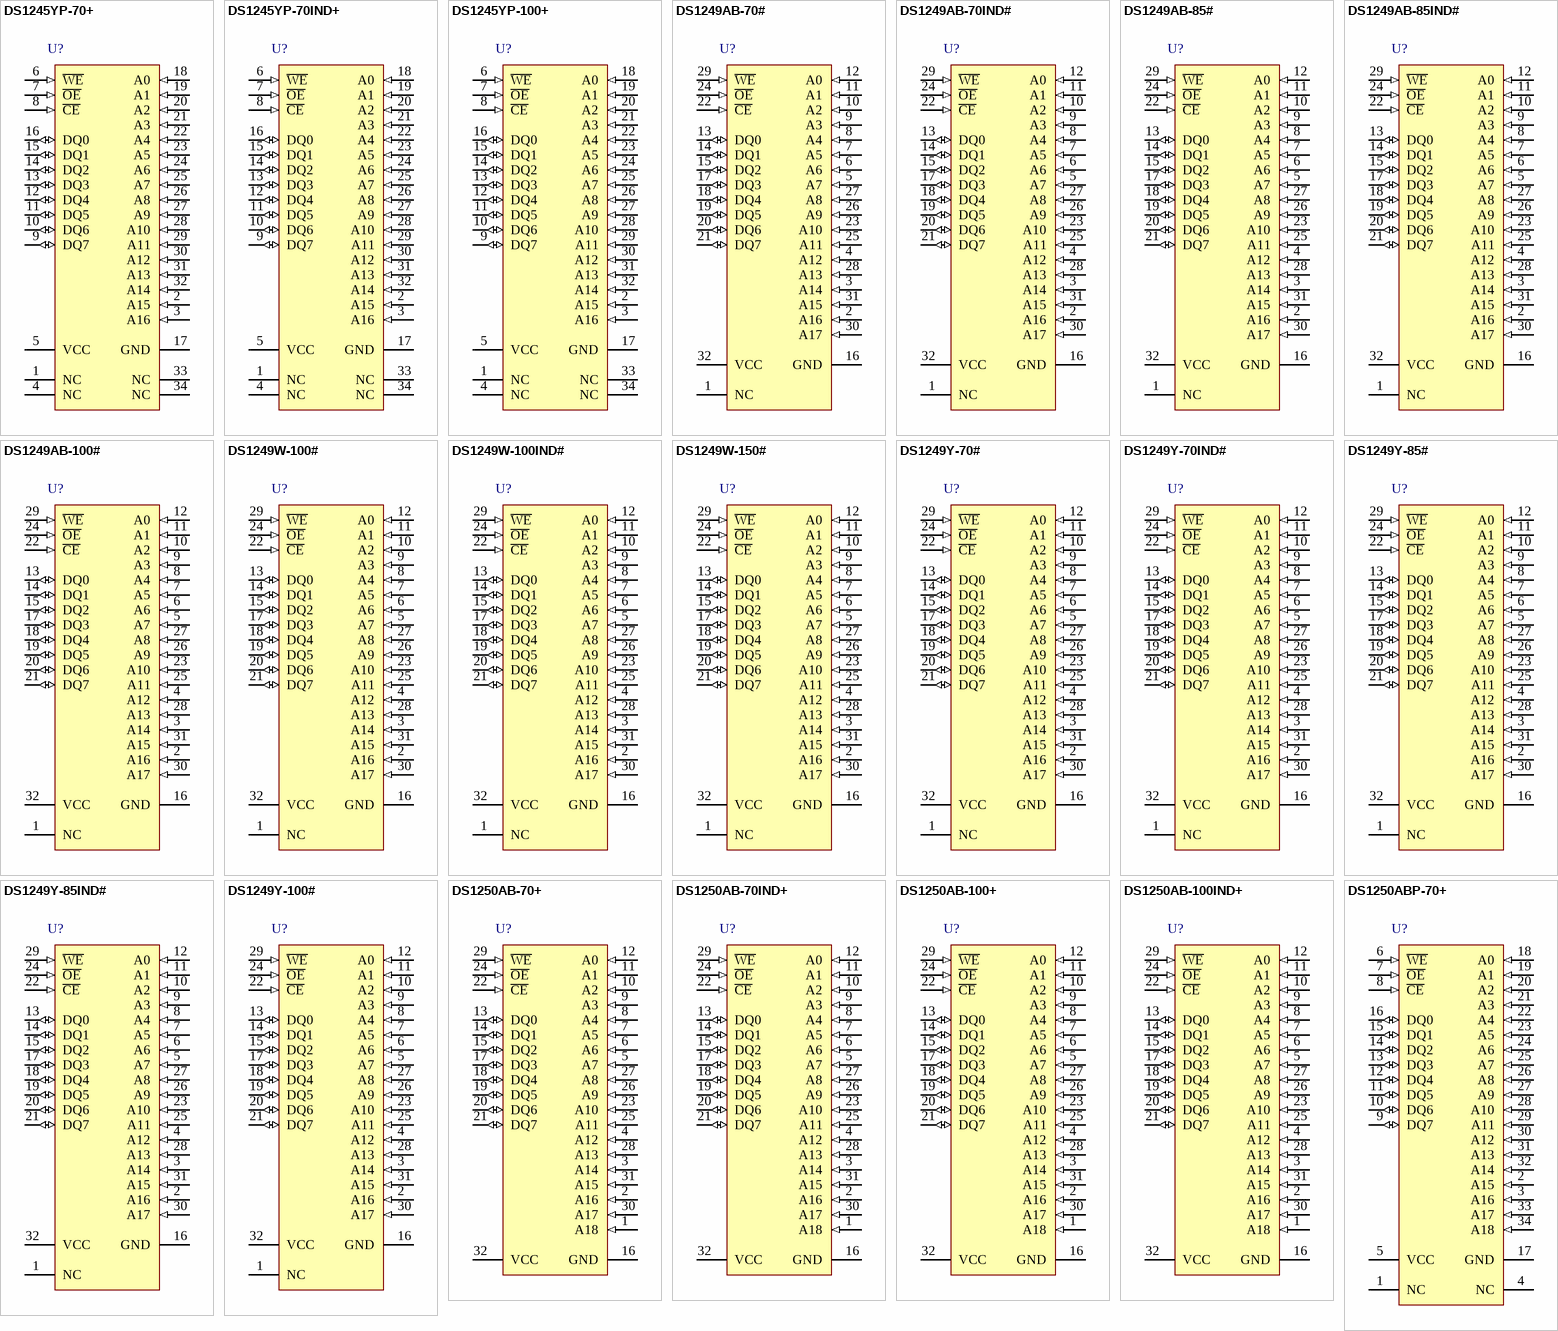
[diagram p5: symbols DS1245YP-70+ to DS1250ABP-70+]

## DS1245YP-70+
designator U?
1Mb Nonvolatile SRAM, +/-10% VCC Operating range, 34-pin PCAP, 0° to + 70° C, Pb-Free; DatasheetVersion: 1/11/2010; PackageVersion: revA, 2004; PackageReference: PC2+3; PackageDescription: 34-Pin PowerCap 0.990 Module with Cap, Pb-Free; ComponentLink1Description: Manufacturer URL; ComponentLink1URL: www.maxim-ic.com; ComponentLink2Description: Datasheet; ComponentLink2URL: http://datasheets.maxim-ic.com/en/ds/DS1245AB-DS1245Y.pdf
footprint PC2+3 (PowerCap Module with Cap, 34-Leads, Body 24.7 x.25.3mm, Pitch 1.27mm)
pins: 1 NC, 2 A15 (in), 3 A16 (in), 4 NC, 5 VCC (power), 6 ~{WE} (in), 7 ~{OE} (in), 8 ~{CE} (in), 9 DQ7 (io), 10 DQ6 (io), 11 DQ5 (io), 12 DQ4 (io), 13 DQ3 (io), 14 DQ2 (io), 15 DQ1 (io), 16 DQ0 (io), 17 GND (power), 18 A0 (in), 19 A1 (in), 20 A2 (in), 21 A3 (in), 22 A4 (in), 23 A5 (in), 24 A6 (in), 25 A7 (in), 26 A8 (in), 27 A9 (in), 28 A10 (in), 29 A11 (in), 30 A12 (in), 31 A13 (in), 32 A14 (in), 33 NC, 34 NC

## DS1245YP-70IND+
designator U?
1Mb Nonvolatile SRAM, +/-10% VCC Operating range, 34-pin PCAP, -40° to + 85° C, Pb-Free; DatasheetVersion: 1/11/2010; PackageVersion: revA, 2004; PackageReference: PC2+3; PackageDescription: 34-Pin PowerCap 0.990 Module with Cap, Pb-Free; ComponentLink1Description: Manufacturer URL; ComponentLink1URL: www.maxim-ic.com; ComponentLink2Description: Datasheet; ComponentLink2URL: http://datasheets.maxim-ic.com/en/ds/DS1245AB-DS1245Y.pdf
footprint PC2+3 (PowerCap Module with Cap, 34-Leads, Body 24.7 x.25.3mm, Pitch 1.27mm)
pins: 1 NC, 2 A15 (in), 3 A16 (in), 4 NC, 5 VCC (power), 6 ~{WE} (in), 7 ~{OE} (in), 8 ~{CE} (in), 9 DQ7 (io), 10 DQ6 (io), 11 DQ5 (io), 12 DQ4 (io), 13 DQ3 (io), 14 DQ2 (io), 15 DQ1 (io), 16 DQ0 (io), 17 GND (power), 18 A0 (in), 19 A1 (in), 20 A2 (in), 21 A3 (in), 22 A4 (in), 23 A5 (in), 24 A6 (in), 25 A7 (in), 26 A8 (in), 27 A9 (in), 28 A10 (in), 29 A11 (in), 30 A12 (in), 31 A13 (in), 32 A14 (in), 33 NC, 34 NC

## DS1245YP-100+
designator U?
1Mb Nonvolatile SRAM, +/-10% VCC Operating range, 34-pin PCAP, 0° to + 70° C, Pb-Free; DatasheetVersion: 1/11/2010; PackageVersion: revA, 2004; PackageReference: PC2+3; PackageDescription: 34-Pin PowerCap 0.990 Module with Cap, Pb-Free; ComponentLink1Description: Manufacturer URL; ComponentLink1URL: www.maxim-ic.com; ComponentLink2Description: Datasheet; ComponentLink2URL: http://datasheets.maxim-ic.com/en/ds/DS1245AB-DS1245Y.pdf
footprint PC2+3 (PowerCap Module with Cap, 34-Leads, Body 24.7 x.25.3mm, Pitch 1.27mm)
pins: 1 NC, 2 A15 (in), 3 A16 (in), 4 NC, 5 VCC (power), 6 ~{WE} (in), 7 ~{OE} (in), 8 ~{CE} (in), 9 DQ7 (io), 10 DQ6 (io), 11 DQ5 (io), 12 DQ4 (io), 13 DQ3 (io), 14 DQ2 (io), 15 DQ1 (io), 16 DQ0 (io), 17 GND (power), 18 A0 (in), 19 A1 (in), 20 A2 (in), 21 A3 (in), 22 A4 (in), 23 A5 (in), 24 A6 (in), 25 A7 (in), 26 A8 (in), 27 A9 (in), 28 A10 (in), 29 A11 (in), 30 A12 (in), 31 A13 (in), 32 A14 (in), 33 NC, 34 NC

## DS1249AB-70#
designator U?
2Mb Nonvolatile SRAM, +/-5% VCC Operating range, 32-pin EDIP, 0° to + 70° C, RoHS Compliant; DatasheetVersion: 1/11/2010; PackageVersion: revA, Feb-2003; PackageReference: MDT32#7; PackageDescription: 32-Pin Encapsulated Dual-In-Line Module, 2.54 mm Pitch, EDIP, RoHS Qualified; ComponentLink1Description: Manufacturer URL; ComponentLink1URL: www.maxim-ic.com; ComponentLink2Description: Datasheet; ComponentLink2URL: http://datasheets.maxim-ic.com/en/ds/DS1249AB-DS1249Y.pdf
footprint MDT32#7 (DIP; 32 Rectangular Pins, Body 43.1x18.5mm, Row Space 15.24mm, Pitch 2.54mm)
pins: 1 NC, 2 A16 (in), 3 A14 (in), 4 A12 (in), 5 A7 (in), 6 A6 (in), 7 A5 (in), 8 A4 (in), 9 A3 (in), 10 A2 (in), 11 A1 (in), 12 A0 (in), 13 DQ0 (io), 14 DQ1 (io), 15 DQ2 (io), 16 GND (power), 17 DQ3 (io), 18 DQ4 (io), 19 DQ5 (io), 20 DQ6 (io), 21 DQ7 (io), 22 ~{CE} (in), 23 A10 (in), 24 ~{OE} (in), 25 A11 (in), 26 A9 (in), 27 A8 (in), 28 A13 (in), 29 ~{WE} (in), 30 A17 (in), 31 A15 (in), 32 VCC (power)

## DS1249AB-70IND#
designator U?
2Mb Nonvolatile SRAM, +/-5% VCC Operating range, 32-pin EDIP, -40° to + 85° C, RoHS Compliant; DatasheetVersion: 1/11/2010; PackageVersion: revA, Feb-2003; PackageReference: MDT32#7; PackageDescription: 32-Pin Encapsulated Dual-In-Line Module, 2.54 mm Pitch, EDIP, RoHS Qualified; ComponentLink1Description: Manufacturer URL; ComponentLink1URL: www.maxim-ic.com; ComponentLink2Description: Datasheet; ComponentLink2URL: http://datasheets.maxim-ic.com/en/ds/DS1249AB-DS1249Y.pdf
footprint MDT32#7 (DIP; 32 Rectangular Pins, Body 43.1x18.5mm, Row Space 15.24mm, Pitch 2.54mm)
pins: 1 NC, 2 A16 (in), 3 A14 (in), 4 A12 (in), 5 A7 (in), 6 A6 (in), 7 A5 (in), 8 A4 (in), 9 A3 (in), 10 A2 (in), 11 A1 (in), 12 A0 (in), 13 DQ0 (io), 14 DQ1 (io), 15 DQ2 (io), 16 GND (power), 17 DQ3 (io), 18 DQ4 (io), 19 DQ5 (io), 20 DQ6 (io), 21 DQ7 (io), 22 ~{CE} (in), 23 A10 (in), 24 ~{OE} (in), 25 A11 (in), 26 A9 (in), 27 A8 (in), 28 A13 (in), 29 ~{WE} (in), 30 A17 (in), 31 A15 (in), 32 VCC (power)

## DS1249AB-85#
designator U?
2Mb Nonvolatile SRAM, +/-5% VCC Operating range, 32-pin EDIP, 0° to + 70° C, RoHS Compliant; DatasheetVersion: 1/11/2010; PackageVersion: revA, Feb-2003; PackageReference: MDT32#7; PackageDescription: 32-Pin Encapsulated Dual-In-Line Module, 2.54 mm Pitch, EDIP, RoHS Qualified; ComponentLink1Description: Manufacturer URL; ComponentLink1URL: www.maxim-ic.com; ComponentLink2Description: Datasheet; ComponentLink2URL: http://datasheets.maxim-ic.com/en/ds/DS1249AB-DS1249Y.pdf
footprint MDT32#7 (DIP; 32 Rectangular Pins, Body 43.1x18.5mm, Row Space 15.24mm, Pitch 2.54mm)
pins: 1 NC, 2 A16 (in), 3 A14 (in), 4 A12 (in), 5 A7 (in), 6 A6 (in), 7 A5 (in), 8 A4 (in), 9 A3 (in), 10 A2 (in), 11 A1 (in), 12 A0 (in), 13 DQ0 (io), 14 DQ1 (io), 15 DQ2 (io), 16 GND (power), 17 DQ3 (io), 18 DQ4 (io), 19 DQ5 (io), 20 DQ6 (io), 21 DQ7 (io), 22 ~{CE} (in), 23 A10 (in), 24 ~{OE} (in), 25 A11 (in), 26 A9 (in), 27 A8 (in), 28 A13 (in), 29 ~{WE} (in), 30 A17 (in), 31 A15 (in), 32 VCC (power)

## DS1249AB-85IND#
designator U?
2Mb Nonvolatile SRAM, +/-5% VCC Operating range, 32-pin EDIP, -40° to + 85° C, RoHS Compliant; DatasheetVersion: 1/11/2010; PackageVersion: revA, Feb-2003; PackageReference: MDT32#7; PackageDescription: 32-Pin Encapsulated Dual-In-Line Module, 2.54 mm Pitch, EDIP, RoHS Qualified; ComponentLink1Description: Manufacturer URL; ComponentLink1URL: www.maxim-ic.com; ComponentLink2Description: Datasheet; ComponentLink2URL: http://datasheets.maxim-ic.com/en/ds/DS1249AB-DS1249Y.pdf
footprint MDT32#7 (DIP; 32 Rectangular Pins, Body 43.1x18.5mm, Row Space 15.24mm, Pitch 2.54mm)
pins: 1 NC, 2 A16 (in), 3 A14 (in), 4 A12 (in), 5 A7 (in), 6 A6 (in), 7 A5 (in), 8 A4 (in), 9 A3 (in), 10 A2 (in), 11 A1 (in), 12 A0 (in), 13 DQ0 (io), 14 DQ1 (io), 15 DQ2 (io), 16 GND (power), 17 DQ3 (io), 18 DQ4 (io), 19 DQ5 (io), 20 DQ6 (io), 21 DQ7 (io), 22 ~{CE} (in), 23 A10 (in), 24 ~{OE} (in), 25 A11 (in), 26 A9 (in), 27 A8 (in), 28 A13 (in), 29 ~{WE} (in), 30 A17 (in), 31 A15 (in), 32 VCC (power)

## DS1249AB-100#
designator U?
2Mb Nonvolatile SRAM, +/-5% VCC Operating range, 32-pin EDIP, 0° to + 70° C, RoHS Compliant; DatasheetVersion: 1/11/2010; PackageVersion: revA, Feb-2003; PackageReference: MDT32#7; PackageDescription: 32-Pin Encapsulated Dual-In-Line Module, 2.54 mm Pitch, EDIP, RoHS Qualified; ComponentLink1Description: Manufacturer URL; ComponentLink1URL: www.maxim-ic.com; ComponentLink2Description: Datasheet; ComponentLink2URL: http://datasheets.maxim-ic.com/en/ds/DS1249AB-DS1249Y.pdf
footprint MDT32#7 (DIP; 32 Rectangular Pins, Body 43.1x18.5mm, Row Space 15.24mm, Pitch 2.54mm)
pins: 1 NC, 2 A16 (in), 3 A14 (in), 4 A12 (in), 5 A7 (in), 6 A6 (in), 7 A5 (in), 8 A4 (in), 9 A3 (in), 10 A2 (in), 11 A1 (in), 12 A0 (in), 13 DQ0 (io), 14 DQ1 (io), 15 DQ2 (io), 16 GND (power), 17 DQ3 (io), 18 DQ4 (io), 19 DQ5 (io), 20 DQ6 (io), 21 DQ7 (io), 22 ~{CE} (in), 23 A10 (in), 24 ~{OE} (in), 25 A11 (in), 26 A9 (in), 27 A8 (in), 28 A13 (in), 29 ~{WE} (in), 30 A17 (in), 31 A15 (in), 32 VCC (power)

## DS1249W-100#
designator U?
2Mb 3.3V Nonvolatile SRAM, 32-pin EDIP, 0° to + 70° C, RoHS Compliant; DatasheetVersion: 1/11/2010; PackageVersion: revA, Feb-2003; PackageReference: MDT32#7; PackageDescription: 32-Pin Encapsulated Dual-In-Line Module, 2.54 mm Pitch, EDIP, RoHS Qualified; ComponentLink1Description: Manufacturer URL; ComponentLink1URL: www.maxim-ic.com; ComponentLink2Description: Datasheet; ComponentLink2URL: http://datasheets.maxim-ic.com/en/ds/DS1249W.pdf
footprint MDT32#7 (DIP; 32 Rectangular Pins, Body 43.1x18.5mm, Row Space 15.24mm, Pitch 2.54mm)
pins: 1 NC, 2 A16 (in), 3 A14 (in), 4 A12 (in), 5 A7 (in), 6 A6 (in), 7 A5 (in), 8 A4 (in), 9 A3 (in), 10 A2 (in), 11 A1 (in), 12 A0 (in), 13 DQ0 (io), 14 DQ1 (io), 15 DQ2 (io), 16 GND (power), 17 DQ3 (io), 18 DQ4 (io), 19 DQ5 (io), 20 DQ6 (io), 21 DQ7 (io), 22 ~{CE} (in), 23 A10 (in), 24 ~{OE} (in), 25 A11 (in), 26 A9 (in), 27 A8 (in), 28 A13 (in), 29 ~{WE} (in), 30 A17 (in), 31 A15 (in), 32 VCC (power)

## DS1249W-100IND#
designator U?
2Mb 3.3V Nonvolatile SRAM, 32-pin EDIP, -40° to + 85° C, RoHS Compliant; DatasheetVersion: 1/11/2010; PackageVersion: revA, Feb-2003; PackageReference: MDT32#7; PackageDescription: 32-Pin Encapsulated Dual-In-Line Module, 2.54 mm Pitch, EDIP, RoHS Qualified; ComponentLink1Description: Manufacturer URL; ComponentLink1URL: www.maxim-ic.com; ComponentLink2Description: Datasheet; ComponentLink2URL: http://datasheets.maxim-ic.com/en/ds/DS1249W.pdf
footprint MDT32#7 (DIP; 32 Rectangular Pins, Body 43.1x18.5mm, Row Space 15.24mm, Pitch 2.54mm)
pins: 1 NC, 2 A16 (in), 3 A14 (in), 4 A12 (in), 5 A7 (in), 6 A6 (in), 7 A5 (in), 8 A4 (in), 9 A3 (in), 10 A2 (in), 11 A1 (in), 12 A0 (in), 13 DQ0 (io), 14 DQ1 (io), 15 DQ2 (io), 16 GND (power), 17 DQ3 (io), 18 DQ4 (io), 19 DQ5 (io), 20 DQ6 (io), 21 DQ7 (io), 22 ~{CE} (in), 23 A10 (in), 24 ~{OE} (in), 25 A11 (in), 26 A9 (in), 27 A8 (in), 28 A13 (in), 29 ~{WE} (in), 30 A17 (in), 31 A15 (in), 32 VCC (power)

## DS1249W-150#
designator U?
2Mb 3.3V Nonvolatile SRAM, 32-pin EDIP, 0° to + 70° C, RoHS Compliant; DatasheetVersion: 1/11/2010; PackageVersion: revA, Feb-2003; PackageReference: MDT32#7; PackageDescription: 32-Pin Encapsulated Dual-In-Line Module, 2.54 mm Pitch, EDIP, RoHS Qualified; ComponentLink1Description: Manufacturer URL; ComponentLink1URL: www.maxim-ic.com; ComponentLink2Description: Datasheet; ComponentLink2URL: http://datasheets.maxim-ic.com/en/ds/DS1249W.pdf
footprint MDT32#7 (DIP; 32 Rectangular Pins, Body 43.1x18.5mm, Row Space 15.24mm, Pitch 2.54mm)
pins: 1 NC, 2 A16 (in), 3 A14 (in), 4 A12 (in), 5 A7 (in), 6 A6 (in), 7 A5 (in), 8 A4 (in), 9 A3 (in), 10 A2 (in), 11 A1 (in), 12 A0 (in), 13 DQ0 (io), 14 DQ1 (io), 15 DQ2 (io), 16 GND (power), 17 DQ3 (io), 18 DQ4 (io), 19 DQ5 (io), 20 DQ6 (io), 21 DQ7 (io), 22 ~{CE} (in), 23 A10 (in), 24 ~{OE} (in), 25 A11 (in), 26 A9 (in), 27 A8 (in), 28 A13 (in), 29 ~{WE} (in), 30 A17 (in), 31 A15 (in), 32 VCC (power)

## DS1249Y-70#
designator U?
2Mb Nonvolatile SRAM, +/-10% VCC Operating range, 32-pin EDIP, 0° to + 70° C, RoHS Compliant; DatasheetVersion: 1/11/2010; PackageVersion: revA, Feb-2003; PackageReference: MDT32#7; PackageDescription: 32-Pin Encapsulated Dual-In-Line Module, 2.54 mm Pitch, EDIP, RoHS Qualified; ComponentLink1Description: Manufacturer URL; ComponentLink1URL: www.maxim-ic.com; ComponentLink2Description: Datasheet; ComponentLink2URL: http://datasheets.maxim-ic.com/en/ds/DS1249AB-DS1249Y.pdf
footprint MDT32#7 (DIP; 32 Rectangular Pins, Body 43.1x18.5mm, Row Space 15.24mm, Pitch 2.54mm)
pins: 1 NC, 2 A16 (in), 3 A14 (in), 4 A12 (in), 5 A7 (in), 6 A6 (in), 7 A5 (in), 8 A4 (in), 9 A3 (in), 10 A2 (in), 11 A1 (in), 12 A0 (in), 13 DQ0 (io), 14 DQ1 (io), 15 DQ2 (io), 16 GND (power), 17 DQ3 (io), 18 DQ4 (io), 19 DQ5 (io), 20 DQ6 (io), 21 DQ7 (io), 22 ~{CE} (in), 23 A10 (in), 24 ~{OE} (in), 25 A11 (in), 26 A9 (in), 27 A8 (in), 28 A13 (in), 29 ~{WE} (in), 30 A17 (in), 31 A15 (in), 32 VCC (power)

## DS1249Y-70IND#
designator U?
2Mb Nonvolatile SRAM, +/-10% VCC Operating range, 32-pin EDIP, -40° to + 85° C, RoHS Compliant; DatasheetVersion: 1/11/2010; PackageVersion: revA, Feb-2003; PackageReference: MDT32#7; PackageDescription: 32-Pin Encapsulated Dual-In-Line Module, 2.54 mm Pitch, EDIP, RoHS Qualified; ComponentLink1Description: Manufacturer URL; ComponentLink1URL: www.maxim-ic.com; ComponentLink2Description: Datasheet; ComponentLink2URL: http://datasheets.maxim-ic.com/en/ds/DS1249AB-DS1249Y.pdf
footprint MDT32#7 (DIP; 32 Rectangular Pins, Body 43.1x18.5mm, Row Space 15.24mm, Pitch 2.54mm)
pins: 1 NC, 2 A16 (in), 3 A14 (in), 4 A12 (in), 5 A7 (in), 6 A6 (in), 7 A5 (in), 8 A4 (in), 9 A3 (in), 10 A2 (in), 11 A1 (in), 12 A0 (in), 13 DQ0 (io), 14 DQ1 (io), 15 DQ2 (io), 16 GND (power), 17 DQ3 (io), 18 DQ4 (io), 19 DQ5 (io), 20 DQ6 (io), 21 DQ7 (io), 22 ~{CE} (in), 23 A10 (in), 24 ~{OE} (in), 25 A11 (in), 26 A9 (in), 27 A8 (in), 28 A13 (in), 29 ~{WE} (in), 30 A17 (in), 31 A15 (in), 32 VCC (power)

## DS1249Y-85#
designator U?
2Mb Nonvolatile SRAM, +/-10% VCC Operating range, 32-pin EDIP, 0° to + 70° C, RoHS Compliant; DatasheetVersion: 1/11/2010; PackageVersion: revA, Feb-2003; PackageReference: MDT32#7; PackageDescription: 32-Pin Encapsulated Dual-In-Line Module, 2.54 mm Pitch, EDIP, RoHS Qualified; ComponentLink1Description: Manufacturer URL; ComponentLink1URL: www.maxim-ic.com; ComponentLink2Description: Datasheet; ComponentLink2URL: http://datasheets.maxim-ic.com/en/ds/DS1249AB-DS1249Y.pdf
footprint MDT32#7 (DIP; 32 Rectangular Pins, Body 43.1x18.5mm, Row Space 15.24mm, Pitch 2.54mm)
pins: 1 NC, 2 A16 (in), 3 A14 (in), 4 A12 (in), 5 A7 (in), 6 A6 (in), 7 A5 (in), 8 A4 (in), 9 A3 (in), 10 A2 (in), 11 A1 (in), 12 A0 (in), 13 DQ0 (io), 14 DQ1 (io), 15 DQ2 (io), 16 GND (power), 17 DQ3 (io), 18 DQ4 (io), 19 DQ5 (io), 20 DQ6 (io), 21 DQ7 (io), 22 ~{CE} (in), 23 A10 (in), 24 ~{OE} (in), 25 A11 (in), 26 A9 (in), 27 A8 (in), 28 A13 (in), 29 ~{WE} (in), 30 A17 (in), 31 A15 (in), 32 VCC (power)

## DS1249Y-85IND#
designator U?
2Mb Nonvolatile SRAM, +/-10% VCC Operating range, 32-pin EDIP, -40° to + 85° C, RoHS Compliant; DatasheetVersion: 1/11/2010; PackageVersion: revA, Feb-2003; PackageReference: MDT32#7; PackageDescription: 32-Pin Encapsulated Dual-In-Line Module, 2.54 mm Pitch, EDIP, RoHS Qualified; ComponentLink1Description: Manufacturer URL; ComponentLink1URL: www.maxim-ic.com; ComponentLink2Description: Datasheet; ComponentLink2URL: http://datasheets.maxim-ic.com/en/ds/DS1249AB-DS1249Y.pdf
footprint MDT32#7 (DIP; 32 Rectangular Pins, Body 43.1x18.5mm, Row Space 15.24mm, Pitch 2.54mm)
pins: 1 NC, 2 A16 (in), 3 A14 (in), 4 A12 (in), 5 A7 (in), 6 A6 (in), 7 A5 (in), 8 A4 (in), 9 A3 (in), 10 A2 (in), 11 A1 (in), 12 A0 (in), 13 DQ0 (io), 14 DQ1 (io), 15 DQ2 (io), 16 GND (power), 17 DQ3 (io), 18 DQ4 (io), 19 DQ5 (io), 20 DQ6 (io), 21 DQ7 (io), 22 ~{CE} (in), 23 A10 (in), 24 ~{OE} (in), 25 A11 (in), 26 A9 (in), 27 A8 (in), 28 A13 (in), 29 ~{WE} (in), 30 A17 (in), 31 A15 (in), 32 VCC (power)

## DS1249Y-100#
designator U?
2Mb Nonvolatile SRAM, +/-10% VCC Operating range, 32-pin EDIP, 0° to + 70° C, RoHS Compliant; DatasheetVersion: 1/11/2010; PackageVersion: revA, Feb-2003; PackageReference: MDT32#7; PackageDescription: 32-Pin Encapsulated Dual-In-Line Module, 2.54 mm Pitch, EDIP, RoHS Qualified; ComponentLink1Description: Manufacturer URL; ComponentLink1URL: www.maxim-ic.com; ComponentLink2Description: Datasheet; ComponentLink2URL: http://datasheets.maxim-ic.com/en/ds/DS1249AB-DS1249Y.pdf
footprint MDT32#7 (DIP; 32 Rectangular Pins, Body 43.1x18.5mm, Row Space 15.24mm, Pitch 2.54mm)
pins: 1 NC, 2 A16 (in), 3 A14 (in), 4 A12 (in), 5 A7 (in), 6 A6 (in), 7 A5 (in), 8 A4 (in), 9 A3 (in), 10 A2 (in), 11 A1 (in), 12 A0 (in), 13 DQ0 (io), 14 DQ1 (io), 15 DQ2 (io), 16 GND (power), 17 DQ3 (io), 18 DQ4 (io), 19 DQ5 (io), 20 DQ6 (io), 21 DQ7 (io), 22 ~{CE} (in), 23 A10 (in), 24 ~{OE} (in), 25 A11 (in), 26 A9 (in), 27 A8 (in), 28 A13 (in), 29 ~{WE} (in), 30 A17 (in), 31 A15 (in), 32 VCC (power)

## DS1250AB-70+
designator U?
4Mb Nonvolatile SRAM, +/-5% VCC Operating range, 32-pin EDIP, 0° to + 70° C, Pb-Free; DatasheetVersion: 1/12/2010; PackageVersion: revA, Feb-2003; PackageReference: MDT32+6; PackageDescription: 32-Pin Encapsulated Dual-In-Line Module, 2.54 mm Pitch, EDIP, Pb-Free; ComponentLink1Description: Manufacturer URL; ComponentLink1URL: www.maxim-ic.com; ComponentLink2Description: Datasheet; ComponentLink2URL: http://datasheets.maxim-ic.com/en/ds/DS1250AB-DS1250Y.pdf
footprint MDT32+6 (DIP; 32 Rectangular Pins, Body 43.1x18.5mm, Row Space 15.24mm, Pitch 2.54mm)
pins: 1 A18 (in), 2 A16 (in), 3 A14 (in), 4 A12 (in), 5 A7 (in), 6 A6 (in), 7 A5 (in), 8 A4 (in), 9 A3 (in), 10 A2 (in), 11 A1 (in), 12 A0 (in), 13 DQ0 (io), 14 DQ1 (io), 15 DQ2 (io), 16 GND (power), 17 DQ3 (io), 18 DQ4 (io), 19 DQ5 (io), 20 DQ6 (io), 21 DQ7 (io), 22 ~{CE} (in), 23 A10 (in), 24 ~{OE} (in), 25 A11 (in), 26 A9 (in), 27 A8 (in), 28 A13 (in), 29 ~{WE} (in), 30 A17 (in), 31 A15 (in), 32 VCC (power)

## DS1250AB-70IND+
designator U?
4Mb Nonvolatile SRAM, +/-5% VCC Operating range, 32-pin EDIP, -40° to + 85° C, Pb-Free; DatasheetVersion: 1/12/2010; PackageVersion: revA, Feb-2003; PackageReference: MDT32+6; PackageDescription: 32-Pin Encapsulated Dual-In-Line Module, 2.54 mm Pitch, EDIP, Pb-Free; ComponentLink1Description: Manufacturer URL; ComponentLink1URL: www.maxim-ic.com; ComponentLink2Description: Datasheet; ComponentLink2URL: http://datasheets.maxim-ic.com/en/ds/DS1250AB-DS1250Y.pdf
footprint MDT32+6 (DIP; 32 Rectangular Pins, Body 43.1x18.5mm, Row Space 15.24mm, Pitch 2.54mm)
pins: 1 A18 (in), 2 A16 (in), 3 A14 (in), 4 A12 (in), 5 A7 (in), 6 A6 (in), 7 A5 (in), 8 A4 (in), 9 A3 (in), 10 A2 (in), 11 A1 (in), 12 A0 (in), 13 DQ0 (io), 14 DQ1 (io), 15 DQ2 (io), 16 GND (power), 17 DQ3 (io), 18 DQ4 (io), 19 DQ5 (io), 20 DQ6 (io), 21 DQ7 (io), 22 ~{CE} (in), 23 A10 (in), 24 ~{OE} (in), 25 A11 (in), 26 A9 (in), 27 A8 (in), 28 A13 (in), 29 ~{WE} (in), 30 A17 (in), 31 A15 (in), 32 VCC (power)

## DS1250AB-100+
designator U?
4Mb Nonvolatile SRAM, +/-5% VCC Operating range, 32-pin EDIP, 0° to + 70° C, Pb-Free; DatasheetVersion: 1/12/2010; PackageVersion: revA, Feb-2003; PackageReference: MDT32+6; PackageDescription: 32-Pin Encapsulated Dual-In-Line Module, 2.54 mm Pitch, EDIP, Pb-Free; ComponentLink1Description: Manufacturer URL; ComponentLink1URL: www.maxim-ic.com; ComponentLink2Description: Datasheet; ComponentLink2URL: http://datasheets.maxim-ic.com/en/ds/DS1250AB-DS1250Y.pdf
footprint MDT32+6 (DIP; 32 Rectangular Pins, Body 43.1x18.5mm, Row Space 15.24mm, Pitch 2.54mm)
pins: 1 A18 (in), 2 A16 (in), 3 A14 (in), 4 A12 (in), 5 A7 (in), 6 A6 (in), 7 A5 (in), 8 A4 (in), 9 A3 (in), 10 A2 (in), 11 A1 (in), 12 A0 (in), 13 DQ0 (io), 14 DQ1 (io), 15 DQ2 (io), 16 GND (power), 17 DQ3 (io), 18 DQ4 (io), 19 DQ5 (io), 20 DQ6 (io), 21 DQ7 (io), 22 ~{CE} (in), 23 A10 (in), 24 ~{OE} (in), 25 A11 (in), 26 A9 (in), 27 A8 (in), 28 A13 (in), 29 ~{WE} (in), 30 A17 (in), 31 A15 (in), 32 VCC (power)

## DS1250AB-100IND+
designator U?
4Mb Nonvolatile SRAM, +/-5% VCC Operating range, 32-pin EDIP, -40° to + 85° C, Pb-Free; DatasheetVersion: 1/12/2010; PackageVersion: revA, Feb-2003; PackageReference: MDT32+6; PackageDescription: 32-Pin Encapsulated Dual-In-Line Module, 2.54 mm Pitch, EDIP, Pb-Free; ComponentLink1Description: Manufacturer URL; ComponentLink1URL: www.maxim-ic.com; ComponentLink2Description: Datasheet; ComponentLink2URL: http://datasheets.maxim-ic.com/en/ds/DS1250AB-DS1250Y.pdf
footprint MDT32+6 (DIP; 32 Rectangular Pins, Body 43.1x18.5mm, Row Space 15.24mm, Pitch 2.54mm)
pins: 1 A18 (in), 2 A16 (in), 3 A14 (in), 4 A12 (in), 5 A7 (in), 6 A6 (in), 7 A5 (in), 8 A4 (in), 9 A3 (in), 10 A2 (in), 11 A1 (in), 12 A0 (in), 13 DQ0 (io), 14 DQ1 (io), 15 DQ2 (io), 16 GND (power), 17 DQ3 (io), 18 DQ4 (io), 19 DQ5 (io), 20 DQ6 (io), 21 DQ7 (io), 22 ~{CE} (in), 23 A10 (in), 24 ~{OE} (in), 25 A11 (in), 26 A9 (in), 27 A8 (in), 28 A13 (in), 29 ~{WE} (in), 30 A17 (in), 31 A15 (in), 32 VCC (power)